# Altium footprint library XT90PB-F.PcbLib: 1 footprints
Each footprint in its own frame and in the unit in brackets; x right, y up, seen from the top. Pads: shape width x height; smd on the part's side, far side on the other; paste and mask are expansions set on the pad; w line width, h text height; cw(c..) or ccw(c..) is an arc to the next point about the centre after c.
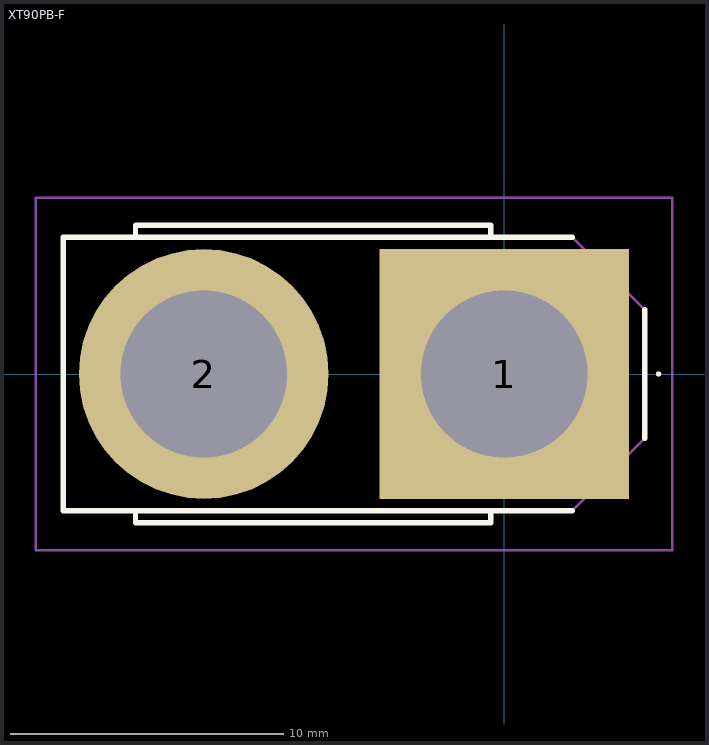
[diagram p0: the footprint, top view; thin cyan lines are the x and y axes]

## XT90PB-F [mm]
pads (2):
  rect 9.15x9.15 hole 6.1: 1(0,0)
  round 9.15 hole 6.1: 2(-11,0)
Top Overlay:
  lines w0.1: 5.6,0 ccw(c5.65,0) 5.7,0 ccw(c5.65,0) 5.6,0
  lines w0.2: -13.5,-5 -13.5,-5.45 -0.5,-5.45 -0.5,-5 ; -13.5,5 -13.5,5.45 -0.5,5.45 -0.5,5 ; 2.5,-5 -16.15,-5 -16.15,5 2.5,5 ; 5.15,-2.35 5.15,2.35
Mechanical 15:
  lines w0.1: -13.5,-5 -13.5,-5.45 -0.5,-5.45 -0.5,-5 ; -13.5,5 -13.5,5.45 -0.5,5.45 -0.5,5 ; -16.15,-5 -5.5,-5 2.5,-5 5.15,-2.35 5.15,2.35 2.5,5 -16.15,5 -16.15,-5
Mechanical 20:
  lines w0.1: -17.15,-6.45 -17.15,6.45 6.15,6.45 6.15,-6.45 -17.15,-6.45
3D body "XT90PB-F.stp": height 19.7, standoff -2.8, extent -16.161,-5.366 5.239,5.334